# Altium footprint library PC110.PcbLib: 67 footprints (part 1 of 5)
Each footprint in its own frame and in the unit in brackets; x right, y up, seen from the top. Pads: shape width x height; smd on the part's side, far side on the other; paste and mask are expansions set on the pad; w line width, h text height; cw(c..) or ccw(c..) is an arc to the next point about the centre after c.
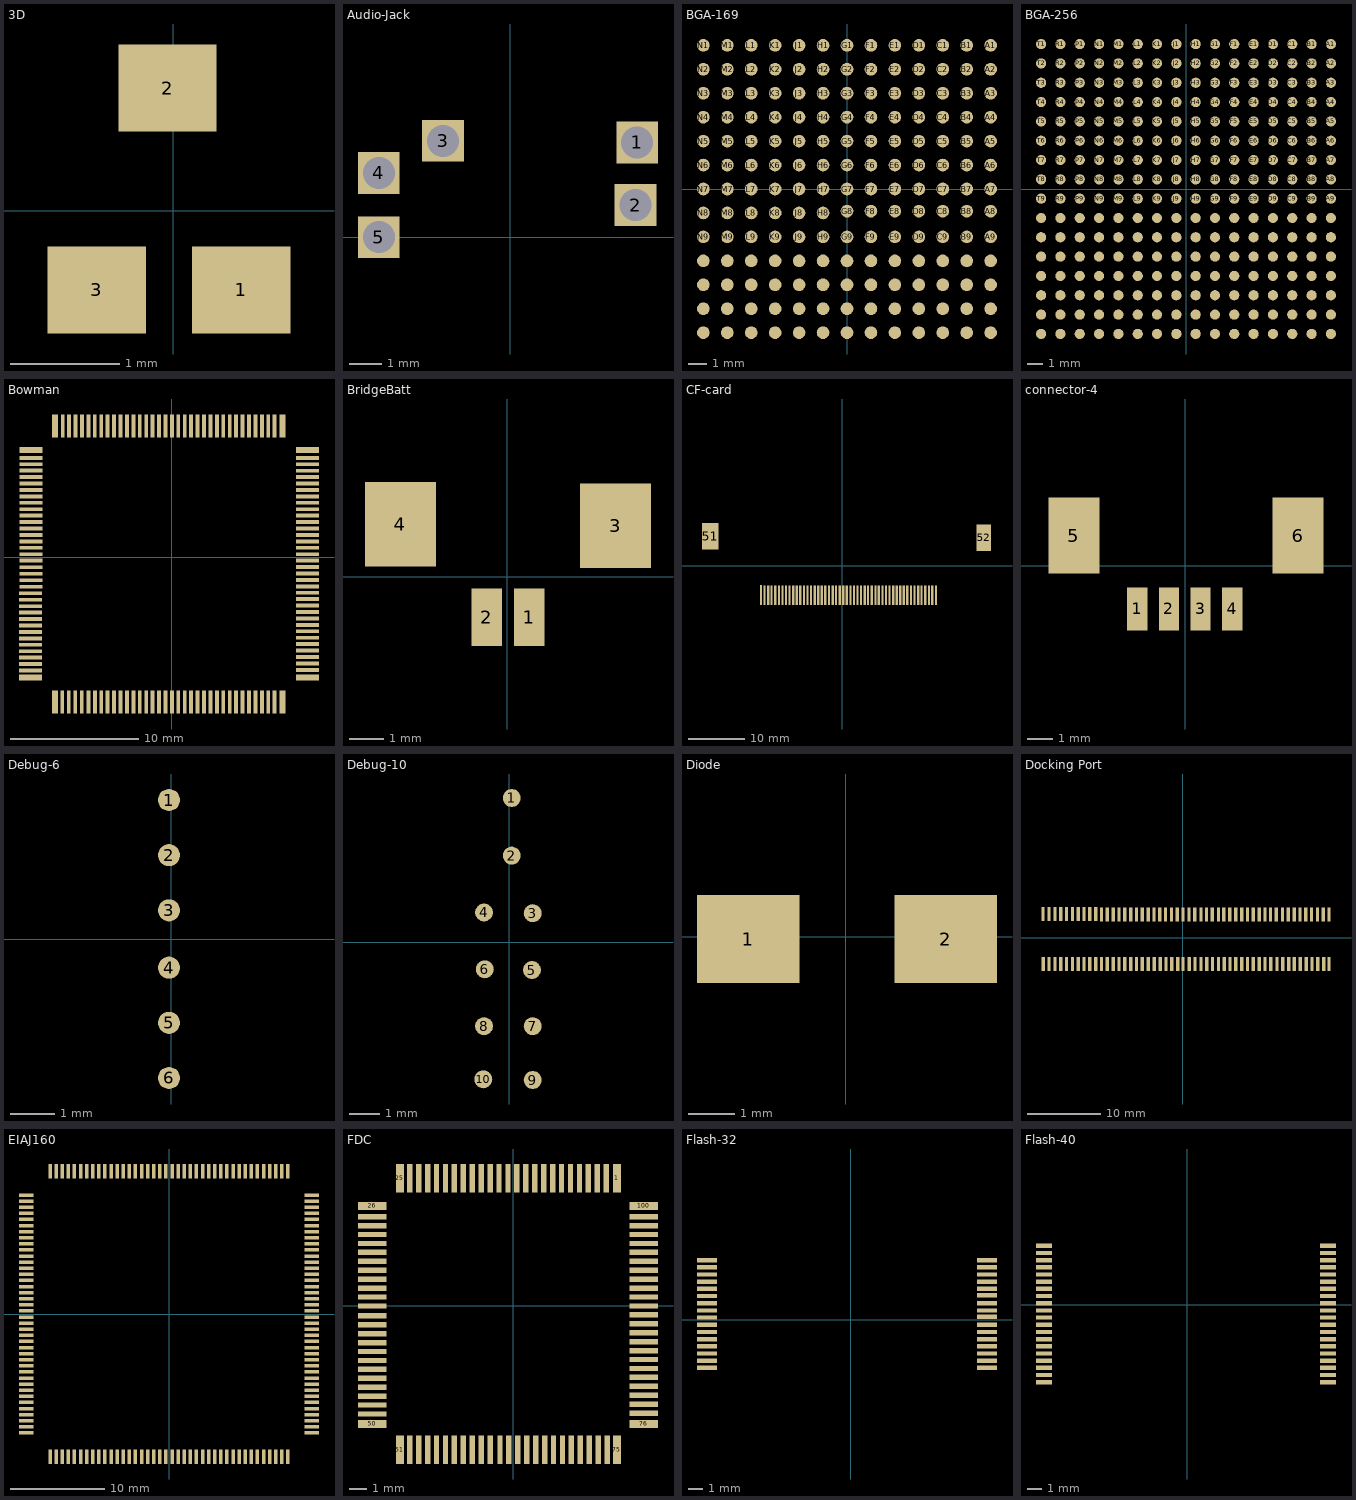
[diagram p0: the footprints below, top view; thin cyan lines are the x and y axes]

## 3D [mm]
pads (3):
  rect 0.9x0.8 smd: 1(0.625,-0.725) 2(-0.05,1.125) 3(-0.7,-0.725)

## Audio-Jack [mm]
pads (5):
  rect 1.3x1.3 hole 1: 1(3.95,2.95) 2(3.9,1) 3(-2.1,3) 4(-4.1,2) 5(-4.1,0)

## BGA-169 [mm]
pads (169):
  round 0.67 smd: A1(7.62,7.62) A2(7.62,6.35) A3(7.62,5.08) A4(7.62,3.81) A5(7.62,2.54) A6(7.62,1.27) A7(7.62,0) A8(7.62,-1.175) A9(7.62,-2.54) A10(7.62,-3.81) A11(7.62,-5.08) A12(7.62,-6.35) A13(7.62,-7.62) B1(6.35,7.62) B2(6.35,6.35) B3(6.35,5.08) B4(6.35,3.81) B5(6.35,2.54) B6(6.35,1.27) B7(6.35,0) B8(6.35,-1.175) B9(6.35,-2.54) B10(6.35,-3.81) B11(6.35,-5.08) B12(6.35,-6.35) B13(6.35,-7.62) C1(5.08,7.62) C2(5.08,6.35) C3(5.08,5.08) C4(5.08,3.81) C5(5.08,2.54) C6(5.08,1.27) C7(5.08,0) C8(5.08,-1.175) C9(5.08,-2.54) C10(5.08,-3.81) C11(5.08,-5.08) C12(5.08,-6.35) C13(5.08,-7.62) D1(3.81,7.62) D2(3.81,6.35) D3(3.81,5.08) D4(3.81,3.81) D5(3.81,2.54) D6(3.81,1.27) D7(3.81,0) D8(3.81,-1.175) D9(3.81,-2.54) D10(3.81,-3.81) D11(3.81,-5.08) D12(3.81,-6.35) D13(3.81,-7.62) E1(2.54,7.62) E2(2.54,6.35) E3(2.54,5.08) E4(2.54,3.81) E5(2.54,2.54) E6(2.54,1.27) E7(2.54,0) E8(2.54,-1.175) E9(2.54,-2.54) E10(2.54,-3.81) E11(2.54,-5.08) E12(2.54,-6.35) E13(2.54,-7.62) F1(1.27,7.62) F2(1.27,6.35) F3(1.27,5.08) F4(1.27,3.81) F5(1.27,2.54) F6(1.27,1.27) F7(1.27,0) F8(1.27,-1.175) F9(1.27,-2.54) F10(1.27,-3.81) F11(1.27,-5.08) F12(1.27,-6.35) F13(1.27,-7.62) G1(0,7.62) G2(0,6.35) G3(0,5.08) G4(0,3.81) G5(0,2.54) G6(0,1.27) G7(0,0) G8(0,-1.175) G9(0,-2.54) G10(0,-3.81) G11(0,-5.08) G12(0,-6.35) G13(0,-7.62) H1(-1.27,7.62) H2(-1.27,6.35) H3(-1.27,5.08) H4(-1.27,3.81) H5(-1.27,2.54) H6(-1.27,1.27) H7(-1.27,0) H8(-1.27,-1.27) H9(-1.27,-2.54) H10(-1.27,-3.81) H11(-1.27,-5.08) H12(-1.27,-6.35) H13(-1.27,-7.62) J1(-2.54,7.62) J2(-2.54,6.35) J3(-2.54,5.08) J4(-2.54,3.81) J5(-2.54,2.54) J6(-2.54,1.27) J7(-2.54,0) J8(-2.54,-1.27) J9(-2.54,-2.54) J10(-2.54,-3.81) J11(-2.54,-5.08) J12(-2.54,-6.35) J13(-2.54,-7.62) K1(-3.81,7.62) K2(-3.81,6.35) K3(-3.81,5.08) K4(-3.81,3.81) K5(-3.81,2.54) K6(-3.81,1.27) K7(-3.81,0) K8(-3.81,-1.27) K9(-3.81,-2.54) K10(-3.81,-3.81) K11(-3.81,-5.08) K12(-3.81,-6.35) K13(-3.81,-7.62) L1(-5.08,7.62) L2(-5.08,6.35) L3(-5.08,5.08) L4(-5.08,3.81) L5(-5.08,2.54) L6(-5.08,1.27) L7(-5.08,0) L8(-5.08,-1.27) L9(-5.08,-2.54) L10(-5.08,-3.81) L11(-5.08,-5.08) L12(-5.08,-6.35) L13(-5.08,-7.62) M1(-6.35,7.62) M2(-6.35,6.35) M3(-6.35,5.08) M4(-6.35,3.81) M5(-6.35,2.54) M6(-6.35,1.27) M7(-6.35,0) M8(-6.35,-1.27) M9(-6.35,-2.54) M10(-6.35,-3.81) M11(-6.35,-5.08) M12(-6.35,-6.35) M13(-6.35,-7.62) N1(-7.62,7.62) N2(-7.62,6.35) N3(-7.62,5.08) N4(-7.62,3.81) N5(-7.62,2.54) N6(-7.62,1.27) N7(-7.62,0) N8(-7.62,-1.27) N9(-7.62,-2.54) N10(-7.62,-3.81) N11(-7.62,-5.08) N12(-7.62,-6.35) N13(-7.62,-7.62)

## BGA-256 [mm]
pads (256):
  round 0.67 smd: A1(9.525,9.525) A2(9.525,8.255) A3(9.525,6.985) A4(9.525,5.715) A5(9.525,4.445) A6(9.525,3.175) A7(9.525,1.905) A8(9.525,0.635) A9(9.525,-0.635) A10(9.525,-1.905) A11(9.525,-3.175) A12(9.525,-4.445) A13(9.525,-5.715) A14(9.525,-6.985) A15(9.525,-8.255) A16(9.525,-9.525) B1(8.255,9.525) B2(8.255,8.255) B3(8.255,6.985) B4(8.255,5.715) B5(8.255,4.445) B6(8.255,3.175) B7(8.255,1.905) B8(8.255,0.635) B9(8.255,-0.635) B10(8.255,-1.905) B11(8.255,-3.175) B12(8.255,-4.445) B13(8.255,-5.715) B14(8.255,-6.985) B15(8.255,-8.255) B16(8.255,-9.525) C1(6.985,9.525) C2(6.985,8.255) C3(6.985,6.985) C4(6.985,5.715) C5(6.985,4.445) C6(6.985,3.175) C7(6.985,1.905) C8(6.985,0.635) C9(6.985,-0.635) C10(6.985,-1.905) C11(6.985,-3.175) C12(6.985,-4.445) C13(6.985,-5.715) C14(6.985,-6.985) C15(6.985,-8.255) C16(6.985,-9.525) D1(5.715,9.525) D2(5.715,8.255) D3(5.715,6.985) D4(5.715,5.715) D5(5.715,4.445) D6(5.715,3.175) D7(5.715,1.905) D8(5.715,0.635) D9(5.715,-0.635) D10(5.715,-1.905) D11(5.715,-3.175) D12(5.715,-4.445) D13(5.715,-5.715) D14(5.715,-6.985) D15(5.715,-8.255) D16(5.715,-9.525) E1(4.445,9.525) E2(4.445,8.255) E3(4.445,6.985) E4(4.445,5.715) E5(4.445,4.445) E6(4.445,3.175) E7(4.445,1.905) E8(4.445,0.635) E9(4.445,-0.635) E10(4.445,-1.905) E11(4.445,-3.175) E12(4.445,-4.445) E13(4.445,-5.715) E14(4.445,-6.985) E15(4.445,-8.255) E16(4.445,-9.525) F1(3.175,9.525) F2(3.175,8.255) F3(3.175,6.985) F4(3.175,5.715) F5(3.175,4.445) F6(3.175,3.175) F7(3.175,1.905) F8(3.175,0.635) F9(3.175,-0.635) F10(3.175,-1.905) F11(3.175,-3.175) F12(3.175,-4.445) F13(3.175,-5.715) F14(3.175,-6.985) F15(3.175,-8.255) F16(3.175,-9.525) G1(1.905,9.525) G2(1.905,8.255) G3(1.905,6.985) G4(1.905,5.715) G5(1.905,4.445) G6(1.905,3.175) G7(1.905,1.905) G8(1.905,0.635) G9(1.905,-0.635) G10(1.905,-1.905) G11(1.905,-3.175) G12(1.905,-4.445) G13(1.905,-5.715) G14(1.905,-6.985) G15(1.905,-8.255) G16(1.905,-9.525) H1(0.635,9.525) H2(0.635,8.255) H3(0.635,6.985) H4(0.635,5.715) H5(0.635,4.445) H6(0.635,3.175) H7(0.635,1.905) H8(0.635,0.635) H9(0.635,-0.635) H10(0.635,-1.905) H11(0.635,-3.175) H12(0.635,-4.445) H13(0.635,-5.715) H14(0.635,-6.985) H15(0.635,-8.255) H16(0.635,-9.525) J1(-0.635,9.525) J2(-0.635,8.255) J3(-0.635,6.985) J4(-0.635,5.715) J5(-0.635,4.445) J6(-0.635,3.175) J7(-0.635,1.905) J8(-0.635,0.635) J9(-0.635,-0.635) J10(-0.635,-1.905) J11(-0.635,-3.175) J12(-0.635,-4.445) J13(-0.635,-5.715) J14(-0.635,-6.985) J15(-0.635,-8.255) J16(-0.635,-9.525) K1(-1.905,9.525) K2(-1.905,8.255) K3(-1.905,6.985) K4(-1.905,5.715) K5(-1.905,4.445) K6(-1.905,3.175) K7(-1.905,1.905) K8(-1.905,0.635) K9(-1.905,-0.635) K10(-1.905,-1.905) K11(-1.905,-3.175) K12(-1.905,-4.445) K13(-1.905,-5.715) K14(-1.905,-6.985) K15(-1.905,-8.255) K16(-1.905,-9.525) L1(-3.175,9.525) L2(-3.175,8.255) L3(-3.175,6.985) L4(-3.175,5.715) L5(-3.175,4.445) L6(-3.175,3.175) L7(-3.175,1.905) L8(-3.175,0.635) L9(-3.175,-0.635) L10(-3.175,-1.905) L11(-3.175,-3.175) L12(-3.175,-4.445) L13(-3.175,-5.715) L14(-3.175,-6.985) L15(-3.175,-8.255) L16(-3.175,-9.525) M1(-4.445,9.525) M2(-4.445,8.255) M3(-4.445,6.985) M4(-4.445,5.715) M5(-4.445,4.445) M6(-4.445,3.175) M7(-4.445,1.905) M8(-4.445,0.635) M9(-4.445,-0.635) M10(-4.445,-1.905) M11(-4.445,-3.175) M12(-4.445,-4.445) M13(-4.445,-5.715) M14(-4.445,-6.985) M15(-4.445,-8.255) M16(-4.445,-9.525) N1(-5.715,9.525) N2(-5.715,8.255) N3(-5.715,6.985) N4(-5.715,5.715) N5(-5.715,4.445) N6(-5.715,3.175) N7(-5.715,1.905) N8(-5.715,0.635) N9(-5.715,-0.635) N10(-5.715,-1.905) N11(-5.715,-3.175) N12(-5.715,-4.445) N13(-5.715,-5.715) N14(-5.715,-6.985) N15(-5.715,-8.255) N16(-5.715,-9.525) P1(-6.985,9.525) P2(-6.985,8.255) P3(-6.985,6.985) P4(-6.985,5.715) P5(-6.985,4.445) P6(-6.985,3.175) P7(-6.985,1.905) P8(-6.985,0.635) P9(-6.985,-0.635) P10(-6.985,-1.905) P11(-6.985,-3.175) P12(-6.985,-4.445) P13(-6.985,-5.715) P14(-6.985,-6.985) P15(-6.985,-8.255) P16(-6.985,-9.525) R1(-8.255,9.525) R2(-8.255,8.255) R3(-8.255,6.985) R4(-8.255,5.715) R5(-8.255,4.445) R6(-8.255,3.175) R7(-8.255,1.905) R8(-8.255,0.635) R9(-8.255,-0.635) R10(-8.255,-1.905) R11(-8.255,-3.175) R12(-8.255,-4.445) R13(-8.255,-5.715) R14(-8.255,-6.985) R15(-8.255,-8.255) R16(-8.255,-9.525) T1(-9.525,9.525) T2(-9.525,8.255) T3(-9.525,6.985) T4(-9.525,5.715) T5(-9.525,4.445) T6(-9.525,3.175) T7(-9.525,1.905) T8(-9.525,0.635) T9(-9.525,-0.635) T10(-9.525,-1.905) T11(-9.525,-3.175) T12(-9.525,-4.445) T13(-9.525,-5.715) T14(-9.525,-6.985) T15(-9.525,-8.255) T16(-9.525,-9.525)

## Bowman [mm]
pads (144):
  rect 1.8x0.45 smd: 1(-10.973,8.35) 36(-11,-9.35) 73(10.55,-9.35) 108(10.55,8.35)
  rect 1.8x0.3 smd: 2(-10.973,7.75) 3(-10.973,7.25) 4(-10.973,6.757) 5(-10.973,6.25) 6(-10.973,5.75) 7(-10.973,5.25) 8(-10.973,4.75) 9(-10.973,4.25) 10(-10.973,3.75) 11(-10.973,3.252) 12(-10.973,2.75) 13(-10.973,2.25) 14(-10.973,1.75) 15(-10.973,1.25) 16(-10.973,0.75) 17(-10.973,0.25) 18(-10.973,-0.253) 19(-10.973,-0.761) 20(-10.973,-1.269) 21(-10.973,-1.777) 22(-10.973,-2.285) 23(-11,-2.793) 24(-11,-3.3) 25(-11,-3.8) 26(-11,-4.3) 27(-11,-4.8) 28(-11,-5.3) 29(-11,-5.8) 30(-11,-6.3) 31(-11,-6.8) 32(-11,-7.3) 33(-11,-7.8) 34(-11,-8.3) 35(-11,-8.8) 74(10.55,-8.75) 75(10.55,-8.25) 76(10.55,-7.75) 77(10.55,-7.25) 78(10.55,-6.75) 79(10.55,-6.25) 80(10.55,-5.75) 81(10.55,-5.25) 82(10.55,-4.75) 83(10.55,-4.25) 84(10.55,-3.75) 85(10.55,-3.25) 86(10.55,-2.75) 87(10.55,-2.25) 88(10.55,-1.75) 89(10.55,-1.25) 90(10.55,-0.75) 91(10.55,-0.25) 92(10.55,0.25) 93(10.55,0.75) 94(10.55,1.25) 95(10.55,1.75) 96(10.55,2.25) 97(10.55,2.75) 98(10.55,3.25) 99(10.55,3.75) 100(10.55,4.25) 101(10.55,4.75) 102(10.55,5.25) 103(10.55,5.75) 104(10.55,6.25) 105(10.55,6.75) 106(10.55,7.25) 107(10.55,7.75)
  rect 0.45x1.8 smd: 37(-9.1,-11.25) 72(8.6,-11.25) 109(8.6,10.225) 144(-9.1,10.225)
  rect 0.3x1.8 smd: 38(-8.534,-11.25) 39(-8.026,-11.25) 40(-7.518,-11.25) 41(-7.01,-11.25) 42(-6.502,-11.25) 43(-5.994,-11.25) 44(-5.5,-11.25) 45(-5,-11.25) 46(-4.5,-11.25) 47(-4,-11.25) 48(-3.5,-11.25) 49(-3,-11.25) 50(-2.5,-11.25) 51(-2,-11.25) 52(-1.5,-11.25) 53(-1,-11.25) 54(-0.5,-11.25) 55(0,-11.25) 56(0.5,-11.25) 57(1,-11.25) 58(1.5,-11.25) 59(2,-11.25) 60(2.5,-11.25) 61(3,-11.25) 62(3.5,-11.25) 63(4,-11.25) 64(4.5,-11.25) 65(5,-11.25) 66(5.5,-11.25) 67(6,-11.25) 68(6.5,-11.25) 69(7,-11.25) 70(7.5,-11.25) 71(8,-11.25) 110(8,10.225) 111(7.5,10.225) 112(7,10.225) 113(6.5,10.225) 114(6,10.225) 115(5.5,10.225) 116(5,10.225) 117(4.5,10.225) 118(4,10.225) 119(3.5,10.225) 120(3,10.225) 121(2.5,10.225) 122(2,10.225) 123(1.5,10.225) 124(1,10.225) 125(0.5,10.225) 126(0,10.225) 127(-0.5,10.225) 128(-1,10.225) 129(-1.5,10.225) 130(-2,10.225) 131(-2.5,10.225) 132(-3,10.225) 133(-3.5,10.225) 134(-4,10.225) 135(-4.5,10.225) 136(-5,10.225) 137(-5.5,10.225) 138(-6,10.225) 139(-6.5,10.225) 140(-7,10.225) 141(-7.5,10.225) 142(-8,10.225) 143(-8.5,10.225)

## BridgeBatt [mm]
pads (4):
  rect 0.9x1.7 smd: 1(0.65,-1.2) 2(-0.6,-1.2)
  rect 2.1x2.5 smd: 3(3.2,1.5) 4(-3.15,1.55)

## CF-card [mm]
pads (52):
  rect 0.4x3.5 smd: 1(16.65,-5.2) 2(16,-5.2) 3(15.4,-5.2) 4(14.75,-5.2) 5(14.1,-5.2) 6(13.5,-5.2) 7(12.85,-5.2) 8(12.2,-5.2) 9(11.55,-5.2) 10(10.95,-5.2) 11(10.3,-5.2) 12(9.7,-5.2) 13(9.05,-5.2) 14(8.4,-5.2) 15(7.8,-5.2) 16(7.15,-5.2) 17(6.5,-5.2) 18(5.9,-5.2) 19(5.25,-5.2) 20(4.6,-5.2) 21(4,-5.2) 22(3.35,-5.2) 23(2.7,-5.2) 24(2.1,-5.2) 25(1.45,-5.2) 26(0.8,-5.2) 27(0.2,-5.2) 28(-0.45,-5.2) 29(-1.1,-5.2) 30(-1.7,-5.2) 31(-2.35,-5.2) 32(-3,-5.2) 33(-3.65,-5.2) 34(-4.25,-5.2) 35(-4.9,-5.2) 36(-5.55,-5.2) 37(-6.15,-5.2) 38(-6.8,-5.2) 39(-7.45,-5.2) 40(-8.1,-5.2) 41(-8.7,-5.2) 42(-9.35,-5.2) 43(-10,-5.2) 44(-10.6,-5.2) 45(-11.25,-5.2) 46(-11.9,-5.2) 47(-12.55,-5.2) 48(-13.15,-5.2) 49(-13.8,-5.2) 50(-14.45,-5.15)
  rect 3x4.7 smd: 51(-23.45,5.3)
  rect 2.5x4.7 smd: 52(25.15,5.05)

## connector-4 [mm]
pads (6):
  rect 0.8x1.7 smd: 1(-1.9,-1.7) 2(-0.65,-1.7) 3(0.6,-1.7) 4(1.85,-1.7)
  rect 2x3 smd: 5(-4.4,1.2) 6(4.45,1.2)

## Debug-6 [mm]
pads (6):
  round 0.5 smd: 1(-0.05,3.15) 2(-0.05,1.9) 3(-0.05,0.65) 4(-0.05,-0.65) 5(-0.05,-1.9) 6(-0.05,-3.15)

## Debug-10 [mm]
pads (10):
  round 0.6 smd: 1(0.075,4.825) 2(0.075,2.9) 3(0.775,0.975) 4(-0.85,1) 5(0.75,-0.925) 6(-0.825,-0.9) 7(0.775,-2.8) 8(-0.85,-2.8) 9(0.775,-4.6) 10(-0.875,-4.575)

## Diode [mm]
pads (2):
  rect 2.2x1.9 smd: 1(-2.1,-0.05) 2(2.15,-0.05)

## Docking Port [mm]
pads (100):
  rect 0.45x1.9 smd: 1(-19.2,3.25) 2(-18.35,3.25) 3(-17.55,3.25) 4(-16.75,3.25) 5(-15.95,3.25) 6(-15.15,3.25) 7(-14.35,3.25) 8(-13.55,3.25) 9(-12.75,3.25) 10(-11.95,3.25) 11(-11.15,3.2) 12(-10.35,3.2) 13(-9.55,3.2) 14(-8.75,3.2) 15(-7.95,3.2) 16(-7.15,3.2) 17(-6.35,3.2) 18(-5.55,3.2) 19(-4.75,3.2) 20(-3.95,3.2) 21(-3.15,3.2) 22(-2.35,3.2) 23(-1.55,3.2) 24(-0.75,3.2) 25(0.05,3.2) 26(0.85,3.2) 27(1.65,3.2) 28(2.5,3.2) 29(3.25,3.2) 30(4.05,3.2) 31(4.9,3.2) 32(5.65,3.2) 33(6.45,3.2) 34(7.3,3.2) 35(8.1,3.2) 36(8.9,3.2) 37(9.7,3.2) 38(10.5,3.2) 39(11.3,3.2) 40(12.05,3.2) 41(12.85,3.2) 42(13.7,3.2) 43(14.5,3.2) 44(15.3,3.2) 45(16.1,3.2) 46(16.9,3.2) 47(17.7,3.2) 48(18.5,3.2) 49(19.3,3.2) 50(20.1,3.2) 51(20.1,-3.6) 52(19.35,-3.6) 53(18.55,-3.6) 54(17.75,-3.6) 55(16.95,-3.6) 56(16.15,-3.6) 57(15.3,-3.6) 58(14.55,-3.6) 59(13.75,-3.6) 60(12.95,-3.6) 61(12.1,-3.6) 62(11.3,-3.6) 63(10.5,-3.6) 64(9.7,-3.6) 65(8.9,-3.6) 66(8.1,-3.6) 67(7.3,-3.6) 68(6.5,-3.6) 69(5.7,-3.6) 70(4.9,-3.6) 71(4.1,-3.6) 72(3.3,-3.6) 73(2.5,-3.6) 74(1.7,-3.6) 75(0.9,-3.6) 76(0.05,-3.6) 77(-0.7,-3.6) 78(-1.5,-3.6) 79(-2.3,-3.6) 80(-3.1,-3.6) 81(-3.9,-3.6) 82(-4.75,-3.6) 83(-5.55,-3.6) 84(-6.35,-3.6) 85(-7.15,-3.6) 86(-7.95,-3.6) 87(-8.75,-3.6) 88(-9.55,-3.6) 89(-10.35,-3.6) 90(-11.15,-3.6) 91(-11.95,-3.6) 92(-12.75,-3.6) 93(-13.55,-3.6) 94(-14.35,-3.6) 95(-15.15,-3.6) 96(-15.95,-3.6) 97(-16.75,-3.6) 98(-17.55,-3.6) 99(-18.35,-3.6) 100(-19.15,-3.6)

## EIAJ160 [mm]
pads (160):
  rect 1.53x0.38 smd: 1(-15.22,12.675) 2(-15.22,12.025) 3(-15.22,11.375) 4(-15.22,10.725) 5(-15.22,10.075) 6(-15.22,9.425) 7(-15.22,8.775) 8(-15.22,8.125) 9(-15.22,7.475) 10(-15.22,6.825) 11(-15.22,6.175) 12(-15.22,5.525) 13(-15.22,4.875) 14(-15.22,4.225) 15(-15.22,3.575) 16(-15.22,2.925) 17(-15.22,2.275) 18(-15.22,1.625) 19(-15.22,0.975) 20(-15.22,0.325) 21(-15.22,-0.325) 22(-15.22,-0.975) 23(-15.22,-1.625) 24(-15.22,-2.275) 25(-15.22,-2.925) 26(-15.22,-3.575) 27(-15.22,-4.225) 28(-15.22,-4.875) 29(-15.22,-5.525) 30(-15.22,-6.175) 31(-15.22,-6.825) 32(-15.22,-7.475) 33(-15.22,-8.125) 34(-15.22,-8.775) 35(-15.22,-9.425) 36(-15.22,-10.075) 37(-15.22,-10.725) 38(-15.22,-11.375) 39(-15.22,-12.025) 40(-15.22,-12.675) 81(15.22,-12.675) 82(15.22,-12.025) 83(15.22,-11.375) 84(15.22,-10.725) 85(15.22,-10.075) 86(15.22,-9.425) 87(15.22,-8.775) 88(15.22,-8.125) 89(15.22,-7.475) 90(15.22,-6.825) 91(15.22,-6.175) 92(15.22,-5.525) 93(15.22,-4.875) 94(15.22,-4.225) 95(15.22,-3.575) 96(15.22,-2.925) 97(15.22,-2.275) 98(15.22,-1.625) 99(15.22,-0.975) 100(15.22,-0.325) 101(15.22,0.325) 102(15.22,0.975) 103(15.22,1.625) 104(15.22,2.275) 105(15.22,2.925) 106(15.22,3.575) 107(15.22,4.225) 108(15.22,4.875) 109(15.22,5.525) 110(15.22,6.175) 111(15.22,6.825) 112(15.22,7.475) 113(15.22,8.125) 114(15.22,8.775) 115(15.22,9.425) 116(15.22,10.075) 117(15.22,10.725) 118(15.22,11.375) 119(15.22,12.025) 120(15.22,12.675)
  rect 0.38x1.53 smd: 41(-12.675,-15.22) 42(-12.025,-15.22) 43(-11.375,-15.22) 44(-10.725,-15.22) 45(-10.075,-15.22) 46(-9.425,-15.22) 47(-8.775,-15.22) 48(-8.125,-15.22) 49(-7.475,-15.22) 50(-6.825,-15.22) 51(-6.175,-15.22) 52(-5.525,-15.22) 53(-4.875,-15.22) 54(-4.225,-15.22) 55(-3.575,-15.22) 56(-2.925,-15.22) 57(-2.275,-15.22) 58(-1.625,-15.22) 59(-0.975,-15.22) 60(-0.325,-15.22) 61(0.325,-15.22) 62(0.975,-15.22) 63(1.625,-15.22) 64(2.275,-15.22) 65(2.925,-15.22) 66(3.575,-15.22) 67(4.225,-15.22) 68(4.875,-15.22) 69(5.525,-15.22) 70(6.175,-15.22) 71(6.825,-15.22) 72(7.475,-15.22) 73(8.125,-15.22) 74(8.775,-15.22) 75(9.425,-15.22) 76(10.075,-15.22) 77(10.725,-15.22) 78(11.375,-15.22) 79(12.025,-15.22) 80(12.675,-15.22) 121(12.675,15.22) 122(12.025,15.22) 123(11.375,15.22) 124(10.725,15.22) 125(10.075,15.22) 126(9.425,15.22) 127(8.775,15.22) 128(8.125,15.22) 129(7.475,15.22) 130(6.825,15.22) 131(6.175,15.22) 132(5.525,15.22) 133(4.875,15.22) 134(4.225,15.22) 135(3.575,15.22) 136(2.925,15.22) 137(2.275,15.22) 138(1.625,15.22) 139(0.975,15.22) 140(0.325,15.22) 141(-0.325,15.22) 142(-0.975,15.22) 143(-1.625,15.22) 144(-2.275,15.22) 145(-2.925,15.22) 146(-3.575,15.22) 147(-4.225,15.22) 148(-4.875,15.22) 149(-5.525,15.22) 150(-6.175,15.22) 151(-6.825,15.22) 152(-7.475,15.22) 153(-8.125,15.22) 154(-8.775,15.22) 155(-9.425,15.22) 156(-10.075,15.22) 157(-10.725,15.22) 158(-11.375,15.22) 159(-12.025,15.22) 160(-12.675,15.22)

## FDC [mm]
pads (100):
  rect 0.45x1.6 smd: 1(5.8,7.15) 25(-6.35,7.15) 51(-6.35,-8.05) 75(5.8,-8.05)
  rect 0.3x1.6 smd: 2(5.2,7.15) 3(4.7,7.15) 4(4.2,7.15) 5(3.7,7.15) 6(3.2,7.15) 7(2.7,7.15) 8(2.2,7.15) 9(1.7,7.15) 10(1.2,7.15) 11(0.7,7.15) 12(0.2,7.15) 13(-0.3,7.15) 14(-0.8,7.15) 15(-1.3,7.15) 16(-1.8,7.15) 17(-2.3,7.15) 18(-2.8,7.15) 19(-3.3,7.15) 20(-3.8,7.15) 21(-4.3,7.15) 22(-4.8,7.15) 23(-5.3,7.15) 24(-5.8,7.15) 52(-5.8,-8.05) 53(-5.3,-8.05) 54(-4.8,-8.05) 55(-4.3,-8.05) 56(-3.8,-8.05) 57(-3.3,-8.05) 58(-2.8,-8.05) 59(-2.3,-8.05) 60(-1.8,-8.05) 61(-1.3,-8.05) 62(-0.75,-8.05) 63(-0.25,-8.05) 64(0.25,-8.05) 65(0.75,-8.05) 66(1.25,-8.05) 67(1.75,-8.05) 68(2.25,-8.05) 69(2.75,-8.05) 70(3.25,-8.05) 71(3.75,-8.05) 72(4.25,-8.05) 73(4.75,-8.05) 74(5.25,-8.05)
  rect 1.6x0.45 smd: 26(-7.9,5.6) 50(-7.9,-6.6) 76(7.3,-6.6) 100(7.3,5.6)
  rect 1.6x0.3 smd: 27(-7.9,5) 28(-7.9,4.5) 29(-7.9,4) 30(-7.9,3.5) 31(-7.9,3) 32(-7.9,2.5) 33(-7.9,2) 34(-7.9,1.5) 35(-7.9,1) 36(-7.9,0.5) 37(-7.9,0) 38(-7.9,-0.55) 39(-7.9,-1.05) 40(-7.9,-1.55) 41(-7.9,-2.05) 42(-7.9,-2.55) 43(-7.9,-3.05) 44(-7.9,-3.55) 45(-7.9,-4.05) 46(-7.9,-4.55) 47(-7.9,-5.05) 48(-7.9,-5.55) 49(-7.9,-6.05) 77(7.3,-6) 78(7.3,-5.5) 79(7.3,-5) 80(7.3,-4.5) 81(7.3,-4) 82(7.3,-3.5) 83(7.3,-3) 84(7.3,-2.5) 85(7.3,-2) 86(7.3,-1.5) 87(7.3,-1) 88(7.3,-0.5) 89(7.3,0) 90(7.3,0.5) 91(7.3,1) 92(7.3,1.5) 93(7.3,2) 94(7.3,2.5) 95(7.3,3) 96(7.3,3.5) 97(7.3,4) 98(7.3,4.5) 99(7.3,5)

## Flash-32 [mm]
pads (32):
  rect 1.4x0.3 smd: 1(-10,4.15) 2(-10,3.65) 3(-10,3.15) 4(-10,2.65) 5(-10,2.15) 6(-10,1.65) 7(-10,1.15) 8(-10,0.65) 9(-10,0.15) 10(-10,-0.35) 11(-10,-0.85) 12(-10,-1.35) 13(-10,-1.85) 14(-10,-2.35) 15(-10,-2.85) 16(-10,-3.35) 17(9.5,-3.35) 18(9.5,-2.85) 19(9.5,-2.35) 20(9.5,-1.85) 21(9.5,-1.35) 22(9.5,-0.85) 23(9.5,-0.35) 24(9.5,0.2) 25(9.5,0.65) 26(9.5,1.15) 27(9.5,1.7) 28(9.5,2.15) 29(9.5,2.65) 30(9.5,3.15) 31(9.5,3.65) 32(9.5,4.15)

## Flash-40 [mm]
pads (40):
  rect 1.1x0.3 smd: 1(9.8,-5.4) 2(9.8,-4.9) 3(9.8,-4.4) 4(9.8,-3.9) 5(9.8,-3.4) 6(9.8,-2.9) 7(9.8,-2.4) 8(9.8,-1.9) 9(9.8,-1.4) 10(9.8,-0.9) 11(9.8,-0.4) 12(9.8,0.1) 13(9.8,0.6) 14(9.8,1.1) 15(9.8,1.6) 16(9.8,2.1) 17(9.8,2.6) 18(9.8,3.1) 19(9.8,3.6) 20(9.8,4.1) 21(-10,4.1) 22(-10,3.6) 23(-10,3.1) 24(-10,2.6) 25(-10,2.1) 26(-10,1.6) 27(-10,1.1) 28(-10,0.6) 29(-10,0.1) 30(-10,-0.4) 31(-10,-0.9) 32(-10,-1.4) 33(-10,-1.9) 34(-10,-2.4) 35(-10,-2.9) 36(-10,-3.4) 37(-10,-3.9) 38(-10,-4.4) 39(-10,-4.9) 40(-10,-5.4)